# EAGLE library part CS8900A (library cirrus-v1.0.2)
Crystal LAN(TM) Ethernet Controller (Optimized for 8-bit mode applications)
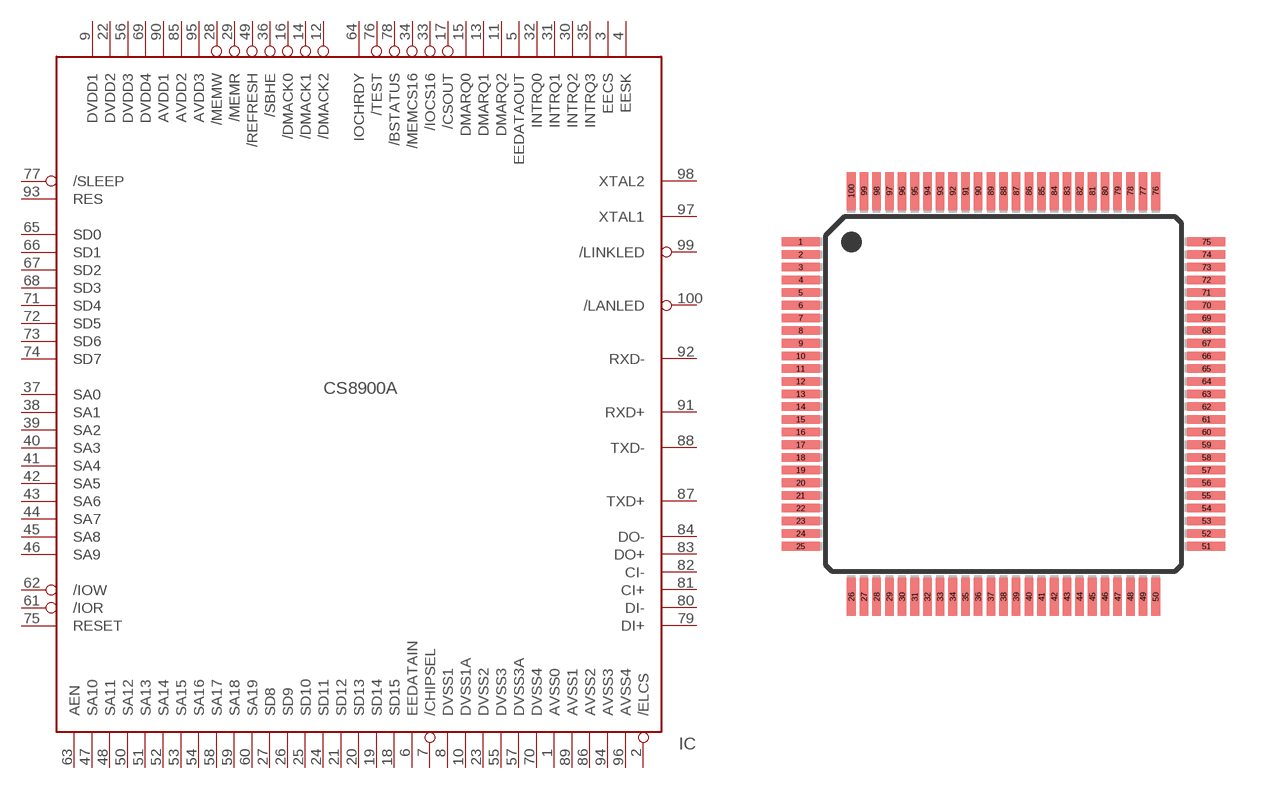
[diagram p10: symbol with the pads of TQFP100; footprint TQFP100]

Designator prefix IC

## CS8900A  [TQFP100]
1  AVSS0
2  /ELCS
3  EECS
4  EESK
5  EEDATAOUT
6  EEDATAIN
7  /CHIPSEL
8  DVSS1
9  DVDD1
10  DVSS1A
11  DMARQ2
12  /DMACK2
13  DMARQ1
14  /DMACK1
15  DMARQ0
16  /DMACK0
17  /CSOUT
18  SD15
19  SD14
20  SD13
21  SD12
22  DVDD2
23  DVSS2
24  SD11
25  SD10
26  SD9
27  SD8
28  /MEMW
29  /MEMR
30  INTRQ2
31  INTRQ1
32  INTRQ0
33  /IOCS16
34  /MEMCS16
35  INTRQ3
36  /SBHE
37  SA0
38  SA1
39  SA2
40  SA3
41  SA4
42  SA5
43  SA6
44  SA7
45  SA8
46  SA9
47  SA10
48  SA11
49  /REFRESH
50  SA12
51  SA13
52  SA14
53  SA15
54  SA16
55  DVSS3
56  DVDD3
57  DVSS3A
58  SA17
59  SA18
60  SA19
61  /IOR
62  /IOW
63  AEN
64  IOCHRDY
65  SD0
66  SD1
67  SD2
68  SD3
69  DVDD4
70  DVSS4
71  SD4
72  SD5
73  SD6
74  SD7
75  RESET
76  /TEST
77  /SLEEP
78  /BSTATUS
79  DI+
80  DI-
81  CI+
82  CI-
83  DO+
84  DO-
85  AVDD2
86  AVSS2
87  TXD+
88  TXD-
89  AVSS1
90  AVDD1
91  RXD+
92  RXD-
93  RES
94  AVSS3
95  AVDD3
96  AVSS4
97  XTAL1
98  XTAL2
99  /LINKLED
100  /LANLED

## Footprint TQFP100 (pad centres in mm)
Plastic Thin Quad Flat Pack
smd 1.5 x 0.34: 1 -8,6; 2 -8,5.5; 3 -8,5; 4 -8,4.5; 5 -8,4; 6 -8,3.5; 7 -8,3; 8 -8,2.5; 9 -8,2; 10 -8,1.5; 11 -8,1; 12 -8,0.5; 13 -8,0; 14 -8,-0.5; 15 -8,-1; 16 -8,-1.5; 17 -8,-2; 18 -8,-2.5; 19 -8,-3; 20 -8,-3.5; 21 -8,-4; 22 -8,-4.5; 23 -8,-5; 24 -8,-5.5; 25 -8,-6; 51 8,-6; 52 8,-5.5; 53 8,-5; 54 8,-4.5; 55 8,-4; 56 8,-3.5; 57 8,-3; 58 8,-2.5; 59 8,-2; 60 8,-1.5; 61 8,-1; 62 8,-0.5; 63 8,0; 64 8,0.5; 65 8,1; 66 8,1.5; 67 8,2; 68 8,2.5; 69 8,3; 70 8,3.5; 71 8,4; 72 8,4.5; 73 8,5; 74 8,5.5; 75 8,6
smd 0.34 x 1.5: 26 -6,-8; 27 -5.5,-8; 28 -5,-8; 29 -4.5,-8; 30 -4,-8; 31 -3.5,-8; 32 -3,-8; 33 -2.5,-8; 34 -2,-8; 35 -1.5,-8; 36 -1,-8; 37 -0.5,-8; 38 0,-8; 39 0.5,-8; 40 1,-8; 41 1.5,-8; 42 2,-8; 43 2.5,-8; 44 3,-8; 45 3.5,-8; 46 4,-8; 47 4.5,-8; 48 5,-8; 49 5.5,-8; 50 6,-8; 76 6,8; 77 5.5,8; 78 5,8; 79 4.5,8; 80 4,8; 81 3.5,8; 82 3,8; 83 2.5,8; 84 2,8; 85 1.5,8; 86 1,8; 87 0.5,8; 88 0,8; 89 -0.5,8; 90 -1,8; 91 -1.5,8; 92 -2,8; 93 -2.5,8; 94 -3,8; 95 -3.5,8; 96 -4,8; 97 -4.5,8; 98 -5,8; 99 -5.5,8; 100 -6,8